# Altium schematic symbol library 野火_EBF6ULL B1 核心板_原理图封装_AD格式.SCHLIB: 52 symbols
Pins are listed as number, name and electrical type; pins without a type are passive.

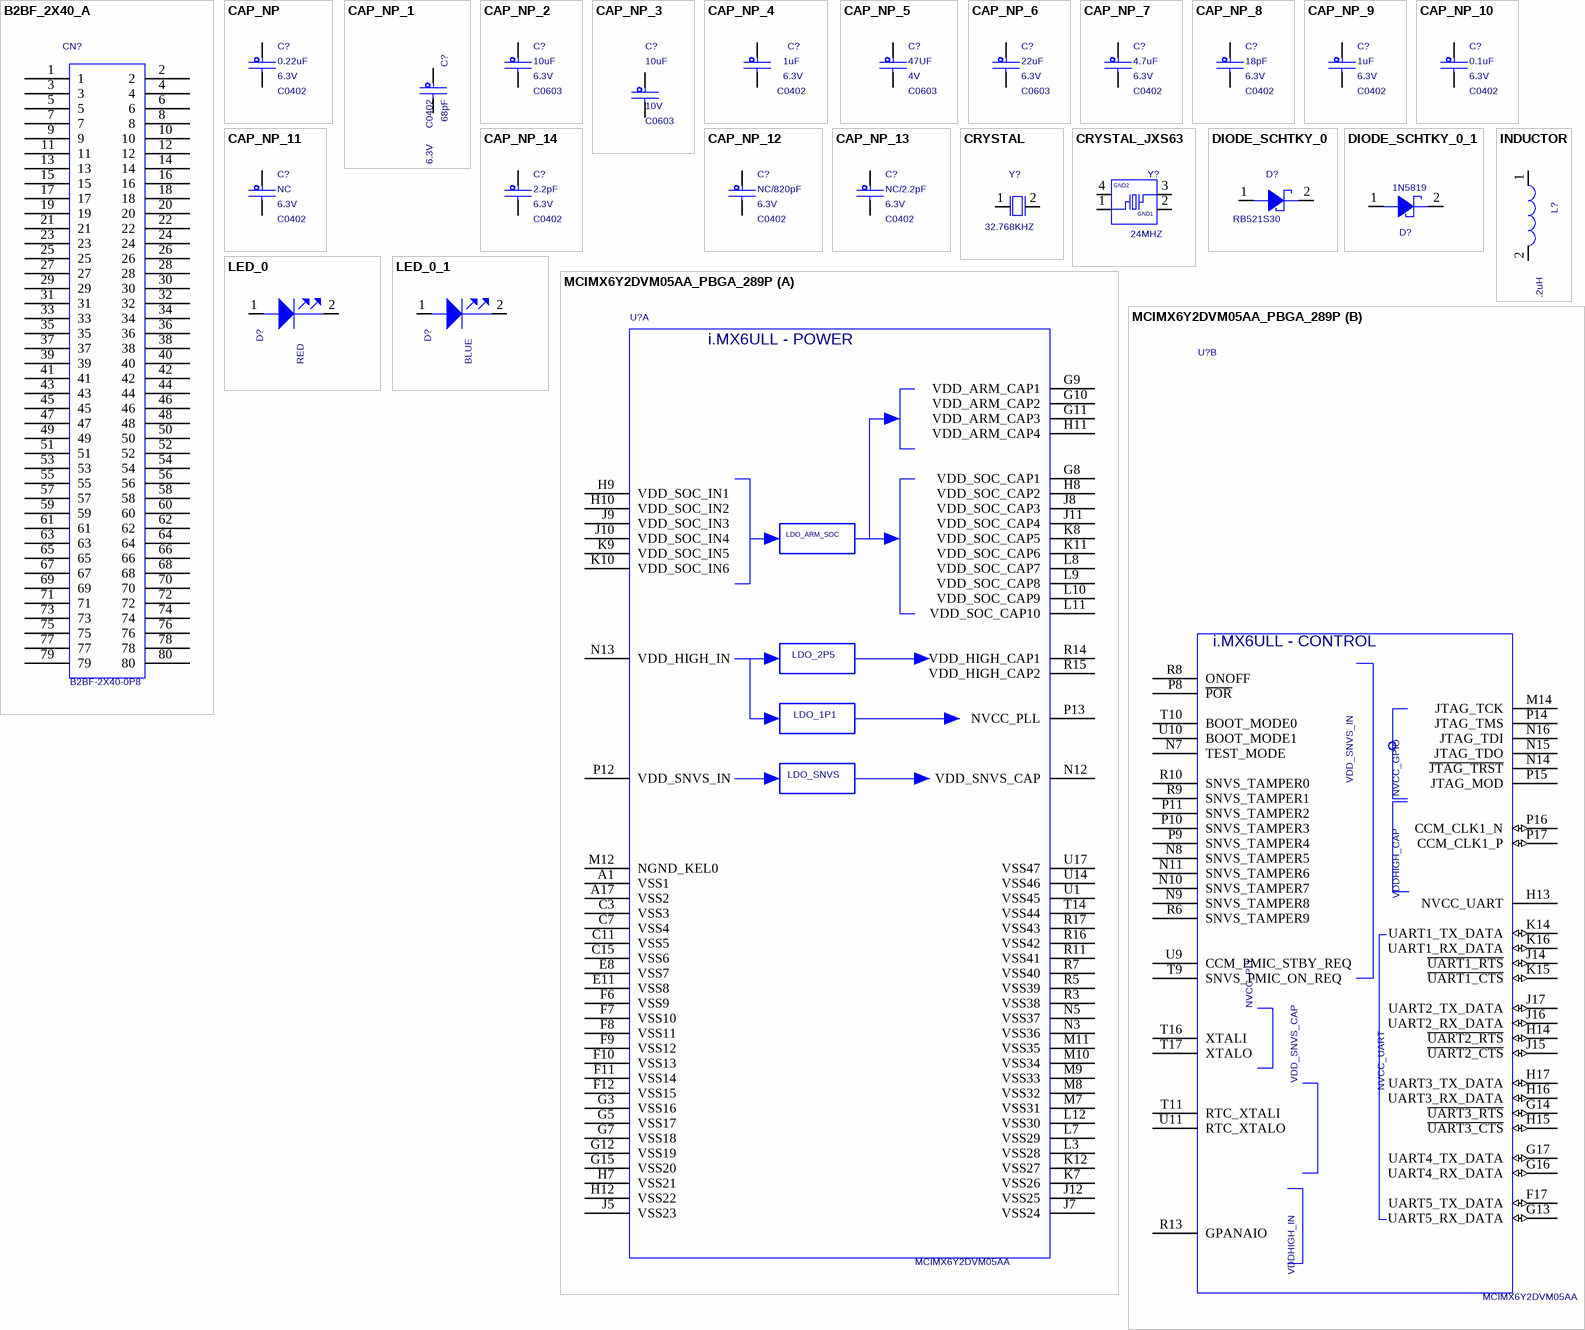
[diagram p0: symbols B2BF_2X40_A to MCIMX6Y2DVM05AA_PBGA_289P]

## B2BF_2X40_A
designator CN?  value B2BF-2X40-0P8  (hidden comment: B2BF_2X40_A)
Source_Path: C:\MYPROGRAM\CADENCE\SPB_16.6\TOOLS\CAPTURE\LIBRARY\CONNECTOR.OLB; PCB DECAL: B2BF-2X40-0P8
footprint B2BF-2X40-0P8
pins: 1, 2, 3, 4, 5, 6, 7, 8, 9, 10, 11, 12, 13, 14, 15, 16, 17, 18, 19, 20, 21, 22, 23, 24, 25, 26, 27, 28, 29, 30, 31, 32, 33, 34, 35, 36, 37, 38, 39, 40, 41, 42, 43, 44, 45, 46, 47, 48, 49, 50, 51, 52, 53, 54, 55, 56, 57, 58, 59, 60, 61, 62, 63, 64, 65, 66, 67, 68, 69, 70, 71, 72, 73, 74, 75, 76, 77, 78, 79, 80

## CAP_NP
designator C?  value 0.22uF  PCB DECAL: C0402  VOLTAGE: 6.3V  (hidden comment: CAP_NP)
CAP CER 0.22UF 6.3V 20% X5R 0402; AGILE_PN: 150-76271; MFG_NAME01: KEMET; MFG_PN01: C0402C224M9PAC; CAD_APPROVED: Yes; FPLIST: CC0402_25,CC0402_HD,0402_CC; Source_Path: Q:\ORCADCIS\SYMBOLS\FCL_CAPACITOR.OLB; CLASS: DISCRETE; Tolerance: 20%; ROHS: Yes; HEIGHT: 0.55MM
footprint C0402
pins: 1, 2

## CAP_NP_1
designator C?, comment value 68pF  PCB DECAL: C0402  VOLTAGE: 6.3V  (hidden comment: CAP_NP)
CAP CER 0.22UF 6.3V 20% X5R 0402; AGILE_PN: 150-76271; MFG_NAME01: KEMET; MFG_PN01: C0402C224M9PAC; CAD_APPROVED: Yes; FPLIST: CC0402_25,CC0402_HD,0402_CC; Source_Path: Q:\ORCADCIS\SYMBOLS\FCL_CAPACITOR.OLB; CLASS: DISCRETE; Tolerance: 20%; ROHS: Yes; HEIGHT: 0.55MM
footprint C0402
pins: 1, 2

## CAP_NP_2
designator C?, comment value 10uF  PCB DECAL: C0603  VOLTAGE: 6.3V  (hidden comment: CAP_NP)
CAP CER 0.22UF 6.3V 20% X5R 0402; AGILE_PN: 150-76271; MFG_NAME01: KEMET; MFG_PN01: C0402C224M9PAC; CAD_APPROVED: Yes; FPLIST: CC0402_25,CC0402_HD,0402_CC; Source_Path: Q:\ORCADCIS\SYMBOLS\FCL_CAPACITOR.OLB; CLASS: DISCRETE; Tolerance: 20%; ROHS: Yes; HEIGHT: 0.55MM
footprint C0603
pins: 1, 2

## CAP_NP_3
designator C?, comment value 10uF  voltage_rating: 10V  PCB DECAL: C0603  (hidden comment: CAP_NP)
CAP CER 22UF 6.3V 20% X5R 0603; FPLIST: CC0603_OV,CC0603,0603_CC; CAD_APPROVED: Yes; MFG_PN01: CL10A226MQ8NRNE; MFG_NAME01: Samsung; AGILE_PN: 150-78467; Source_Path: Q:\ORCADCIS\SYMBOLS\FCL_CAPACITOR.OLB; CLASS: DISCRETE; VOLTAGE: 6.3V; HEIGHT: 1MM; ROHS: Yes; Tolerance: 20%
footprint C0603
pins: 1, 2

## CAP_NP_4
designator C?, comment value 1uF  voltage_rating: 6.3V  PCB DECAL: C0402  (hidden comment: CAP_NP)
CAP CER 22UF 6.3V 20% X5R 0603; AGILE_PN: 150-78467; MFG_NAME01: Samsung; MFG_PN01: CL10A226MQ8NRNE; CAD_APPROVED: Yes; FPLIST: CC0603_OV,CC0603,0603_CC; Source_Path: Q:\ORCADCIS\SYMBOLS\FCL_CAPACITOR.OLB; CLASS: DISCRETE; Tolerance: 20%; ROHS: Yes; HEIGHT: 1MM; VOLTAGE: 6.3V
footprint C0402
pins: 1, 2

## CAP_NP_5
designator C?, comment value 47UF  voltage_rating: 4V  PCB DECAL: C0603  (hidden comment: CAP_NP)
CAP CER 22UF 6.3V 20% X5R 0603; FPLIST: CC0603_OV,CC0603,0603_CC; CAD_APPROVED: Yes; MFG_PN01: CL10A226MQ8NRNE; MFG_NAME01: Samsung; AGILE_PN: 150-78467; Source_Path: Q:\ORCADCIS\SYMBOLS\FCL_CAPACITOR.OLB; CLASS: DISCRETE; VOLTAGE: 6.3V; HEIGHT: 1MM; ROHS: Yes; Tolerance: 20%
footprint C0603
pins: 1, 2

## CAP_NP_6
designator C?, comment value 22uF  PCB DECAL: C0603  VOLTAGE: 6.3V  (hidden comment: CAP_NP)
CAP CER 0.22UF 6.3V 20% X5R 0402; AGILE_PN: 150-76271; MFG_NAME01: KEMET; MFG_PN01: C0402C224M9PAC; CAD_APPROVED: Yes; FPLIST: CC0402_25,CC0402_HD,0402_CC; Source_Path: Q:\ORCADCIS\SYMBOLS\FCL_CAPACITOR.OLB; CLASS: DISCRETE; Tolerance: 20%; ROHS: Yes; HEIGHT: 0.55MM
footprint C0603
pins: 1, 2

## CAP_NP_7
designator C?, comment value 4.7uF  PCB DECAL: C0402  VOLTAGE: 6.3V  (hidden comment: CAP_NP)
CAP CER 0.22UF 6.3V 20% X5R 0402; AGILE_PN: 150-76271; MFG_NAME01: KEMET; MFG_PN01: C0402C224M9PAC; CAD_APPROVED: Yes; FPLIST: CC0402_25,CC0402_HD,0402_CC; Source_Path: Q:\ORCADCIS\SYMBOLS\FCL_CAPACITOR.OLB; CLASS: DISCRETE; Tolerance: 20%; ROHS: Yes; HEIGHT: 0.55MM
footprint C0402
pins: 1, 2

## CAP_NP_8
designator C?, comment value 18pF  PCB DECAL: C0402  VOLTAGE: 6.3V  (hidden comment: CAP_NP)
CAP CER 0.22UF 6.3V 20% X5R 0402; AGILE_PN: 150-76271; MFG_NAME01: KEMET; MFG_PN01: C0402C224M9PAC; CAD_APPROVED: Yes; FPLIST: CC0402_25,CC0402_HD,0402_CC; Source_Path: Q:\ORCADCIS\SYMBOLS\FCL_CAPACITOR.OLB; CLASS: DISCRETE; Tolerance: 20%; ROHS: Yes; HEIGHT: 0.55MM
footprint C0402
pins: 1, 2

## CAP_NP_9
designator C?, comment value 1uF  VOLTAGE: 6.3V  PCB DECAL: C0402  (hidden comment: CAP_NP)
CAP CER 0.22UF 6.3V 20% X5R 0402; FPLIST: CC0402_25,CC0402_HD,0402_CC; CAD_APPROVED: Yes; MFG_PN01: C0402C224M9PAC; MFG_NAME01: KEMET; AGILE_PN: 150-76271; Source_Path: Q:\ORCADCIS\SYMBOLS\FCL_CAPACITOR.OLB; CLASS: DISCRETE; HEIGHT: 0.55MM; ROHS: Yes; Tolerance: 20%
footprint C0402
pins: 1, 2

## CAP_NP_10
designator C?, comment value 0.1uF  PCB DECAL: C0402  VOLTAGE: 6.3V  (hidden comment: CAP_NP)
CAP CER 0.22UF 6.3V 20% X5R 0402; FPLIST: CC0402_25,CC0402_HD,0402_CC; CAD_APPROVED: Yes; MFG_PN01: C0402C224M9PAC; MFG_NAME01: KEMET; AGILE_PN: 150-76271; Source_Path: Q:\ORCADCIS\SYMBOLS\FCL_CAPACITOR.OLB; CLASS: DISCRETE; HEIGHT: 0.55MM; ROHS: Yes; Tolerance: 20%
footprint C0402
pins: 1, 2

## CAP_NP_11
designator C?, comment value NC  PCB DECAL: C0402  VOLTAGE: 6.3V  (hidden comment: CAP_NP)
CAP CER 0.22UF 6.3V 20% X5R 0402; AGILE_PN: 150-76271; MFG_NAME01: KEMET; MFG_PN01: C0402C224M9PAC; CAD_APPROVED: Yes; FPLIST: CC0402_25,CC0402_HD,0402_CC; Source_Path: Q:\ORCADCIS\SYMBOLS\FCL_CAPACITOR.OLB; CLASS: DISCRETE; Tolerance: 20%; ROHS: Yes; HEIGHT: 0.55MM
footprint C0402
pins: 1, 2

## CAP_NP_12
designator C?, comment value NC/820pF  PCB DECAL: C0402  VOLTAGE: 6.3V  (hidden comment: CAP_NP)
CAP CER 0.22UF 6.3V 20% X5R 0402; AGILE_PN: 150-76271; MFG_NAME01: KEMET; MFG_PN01: C0402C224M9PAC; CAD_APPROVED: Yes; FPLIST: CC0402_25,CC0402_HD,0402_CC; Source_Path: Q:\ORCADCIS\SYMBOLS\FCL_CAPACITOR.OLB; CLASS: DISCRETE; Tolerance: 20%; ROHS: Yes; HEIGHT: 0.55MM
footprint C0402
pins: 1, 2

## CAP_NP_13
designator C?, comment value NC/2.2pF  PCB DECAL: C0402  VOLTAGE: 6.3V  (hidden comment: CAP_NP)
CAP CER 0.22UF 6.3V 20% X5R 0402; AGILE_PN: 150-76271; MFG_NAME01: KEMET; MFG_PN01: C0402C224M9PAC; CAD_APPROVED: Yes; FPLIST: CC0402_25,CC0402_HD,0402_CC; Source_Path: Q:\ORCADCIS\SYMBOLS\FCL_CAPACITOR.OLB; CLASS: DISCRETE; Tolerance: 20%; ROHS: Yes; HEIGHT: 0.55MM
footprint C0402
pins: 1, 2

## CAP_NP_14
designator C?, comment value 2.2pF  PCB DECAL: C0402  VOLTAGE: 6.3V  (hidden comment: CAP_NP)
CAP CER 0.22UF 6.3V 20% X5R 0402; FPLIST: CC0402_25,CC0402_HD,0402_CC; CAD_APPROVED: Yes; MFG_PN01: C0402C224M9PAC; MFG_NAME01: KEMET; AGILE_PN: 150-76271; Source_Path: Q:\ORCADCIS\SYMBOLS\FCL_CAPACITOR.OLB; CLASS: DISCRETE; HEIGHT: 0.55MM; ROHS: Yes; Tolerance: 20%
footprint C0402
pins: 1, 2

## CRYSTAL
designator Y?  value 32.768KHZ  (hidden comment: CRYSTAL)
XTAL 32.768KHZ 7PF 20PPM -- SMT; PCB DECAL: 3215; AGILE_PN: 230-78102; MFG_NAME01: EPSON ELECTRONICS; MFG_PN01: FC-135 32.7680KA-AG3; CAD_APPROVED: Yes; Source_Path: Q:\ORCADCIS\SYMBOLS\FCL_XTAL_OSC.OLB; CLASS: IC; ROHS: Yes; HEIGHT: 0.9MM
footprint 3215
pins: 1, 2

## CRYSTAL_JXS63
designator Y?  value 24MHZ  (hidden comment: CRYSTAL_JXS63)
XTAL 24MHZ -- 30PPM 3.2X2.5MM SMD; PCB DECAL: 3225; CAD_APPROVED: Yes; MFG_PN01: 7V24000002; MFG_NAME01: TXC CORP; AGILE_PN: 230-77452; Source_Path: Q:\ORCADCIS\SYMBOLS\FCL_XTAL_OSC.OLB; CLASS: IC; HEIGHT: 0.9MM; ROHS: Yes
footprint 3225
pins: 1, 2 GND1 (power), 3, 4 GND2 (power)

## DIODE_SCHTKY_0
designator D?  value RB521S30  (hidden comment: DIODE_SCHTKY_0)
DIODE SCH RECT 200MA 30V AEC-Q101 SOD-523; PCB DECAL: SOD523; AGILE_PN: 480-79672; MFG_NAME01: NEXPERIA; MFG_PN01: RB521S30,115; CAD_APPROVED: Yes; Source_Path: H:\NXP_RT1050\SCH\IMXRT1052_CORE\CORE\IMXRT1052_1207.DSN; CLASS: IC; ROHS: Yes; HEIGHT: 0.65MM
footprint SOD523
pins: 1, 2

## DIODE_SCHTKY_0_1
designator D?, comment value 1N5819  (hidden comment: DIODE_SCHTKY_0)
DIODE SCH RECT 200MA 30V AEC-Q101 SOD-523; PCB DECAL: SOD523; CAD_APPROVED: Yes; MFG_PN01: RB521S30,115; MFG_NAME01: NEXPERIA; AGILE_PN: 480-79672; Source_Path: H:\NXP_RT1050\SCH\IMXRT1052_CORE\CORE\IMXRT1052_1207.DSN; CLASS: IC; HEIGHT: 0.65MM; ROHS: Yes
footprint SOD523
pins: 1, 2

## INDUCTOR
designator L?  value 2.2uH  (hidden comment: INDUCTOR)
IND WW PWR 1.5uH@1MHZ 2A 20% 2520; PART_TYPE: POWER; AGILE_PN: 180-78270; MFG_NAME01: Shenzhen Sunlord Electronics Co., Ltd; MFG_PN01: SPH252012H1R5MT; CAD_APPROVED: Yes; PCB DECAL: L2520; Source_Path: Q:\ORCADCIS\SYMBOLS\FCL_INDUCTOR.OLB; CLASS: DISCRETE; Tolerance: 20%; ROHS: Yes; HEIGHT: 1.2MM
footprint L2520
pins: 1, 2

## LED_0
designator D?  value RED  (hidden comment: LED_0)
LED GRN SGL 25MA 0603; PCB DECAL: LED0603; AGILE_PN: 370-76549; MFG_NAME01: KINGBRIGHT; MFG_PN01: KPT-1608SGC; CAD_APPROVED: Yes; Source_Path: H:\NXP_RT1050\SCH\IMXRT1052_CORE\CORE\IMXRT1052_1207.DSN; CLASS: IC; ROHS: Yes; HEIGHT: 0.85MM
footprint LED0603
pins: 1 ANODE, 2 CATHODE

## LED_0_1
designator D?, comment value BLUE  (hidden comment: LED_0)
LED GRN SGL 25MA 0603; PCB DECAL: LED0603; AGILE_PN: 370-76549; MFG_NAME01: KINGBRIGHT; MFG_PN01: KPT-1608SGC; CAD_APPROVED: Yes; Source_Path: H:\NXP_RT1050\SCH\IMXRT1052_CORE\CORE\IMXRT1052_1207.DSN; CLASS: IC; ROHS: Yes; HEIGHT: 0.85MM
footprint LED0603
pins: 1 ANODE, 2 CATHODE

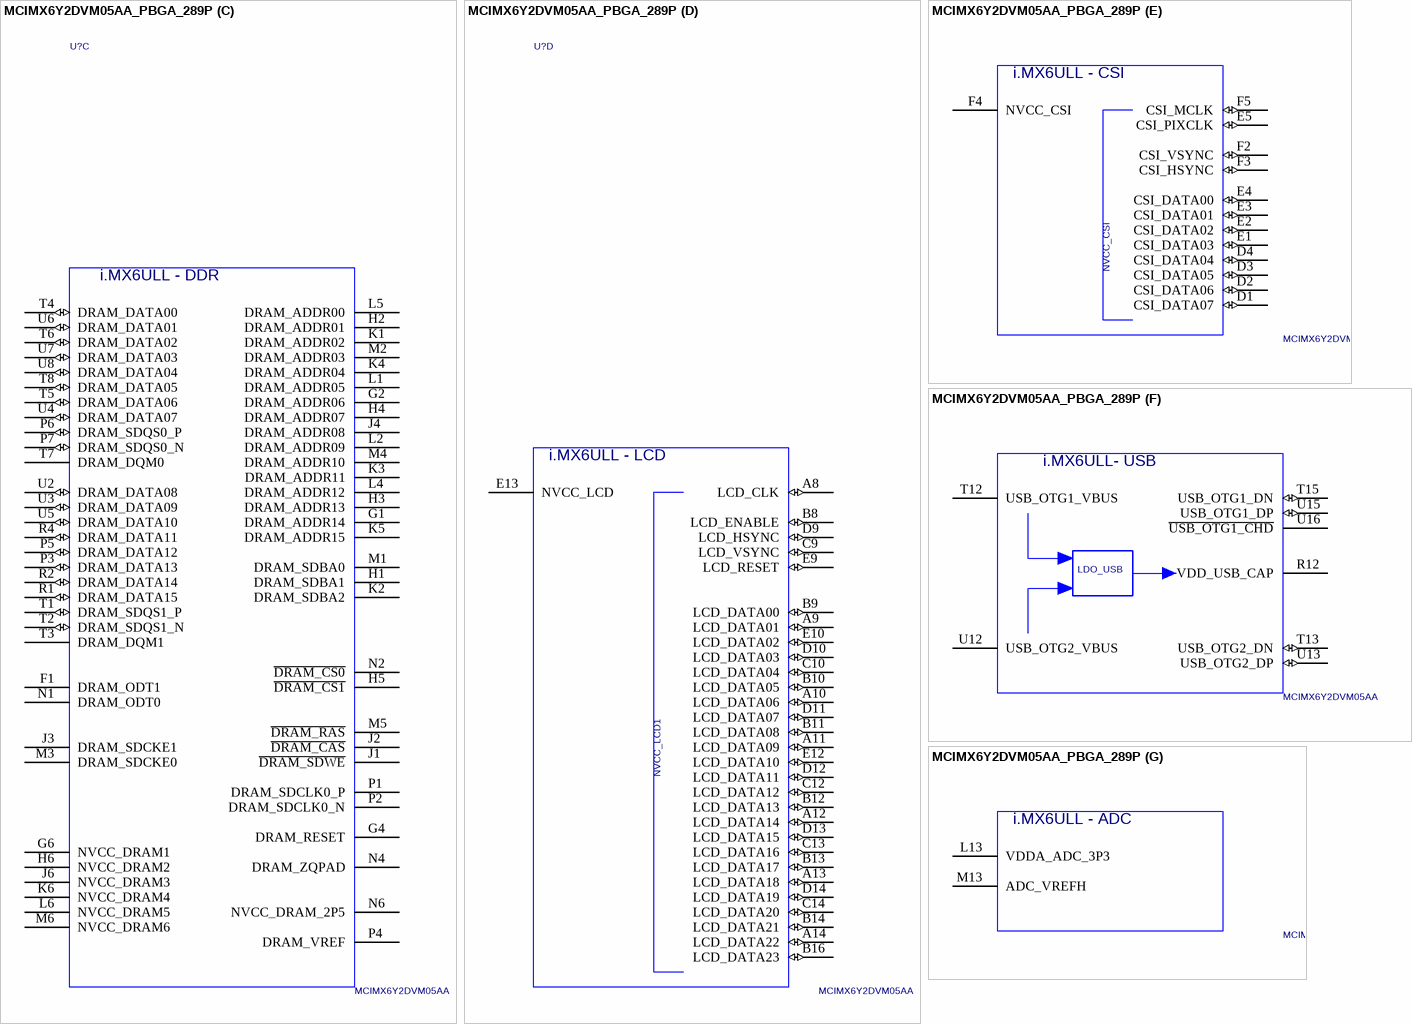
[diagram p1: symbol MCIMX6Y2DVM05AA_PBGA_289P]

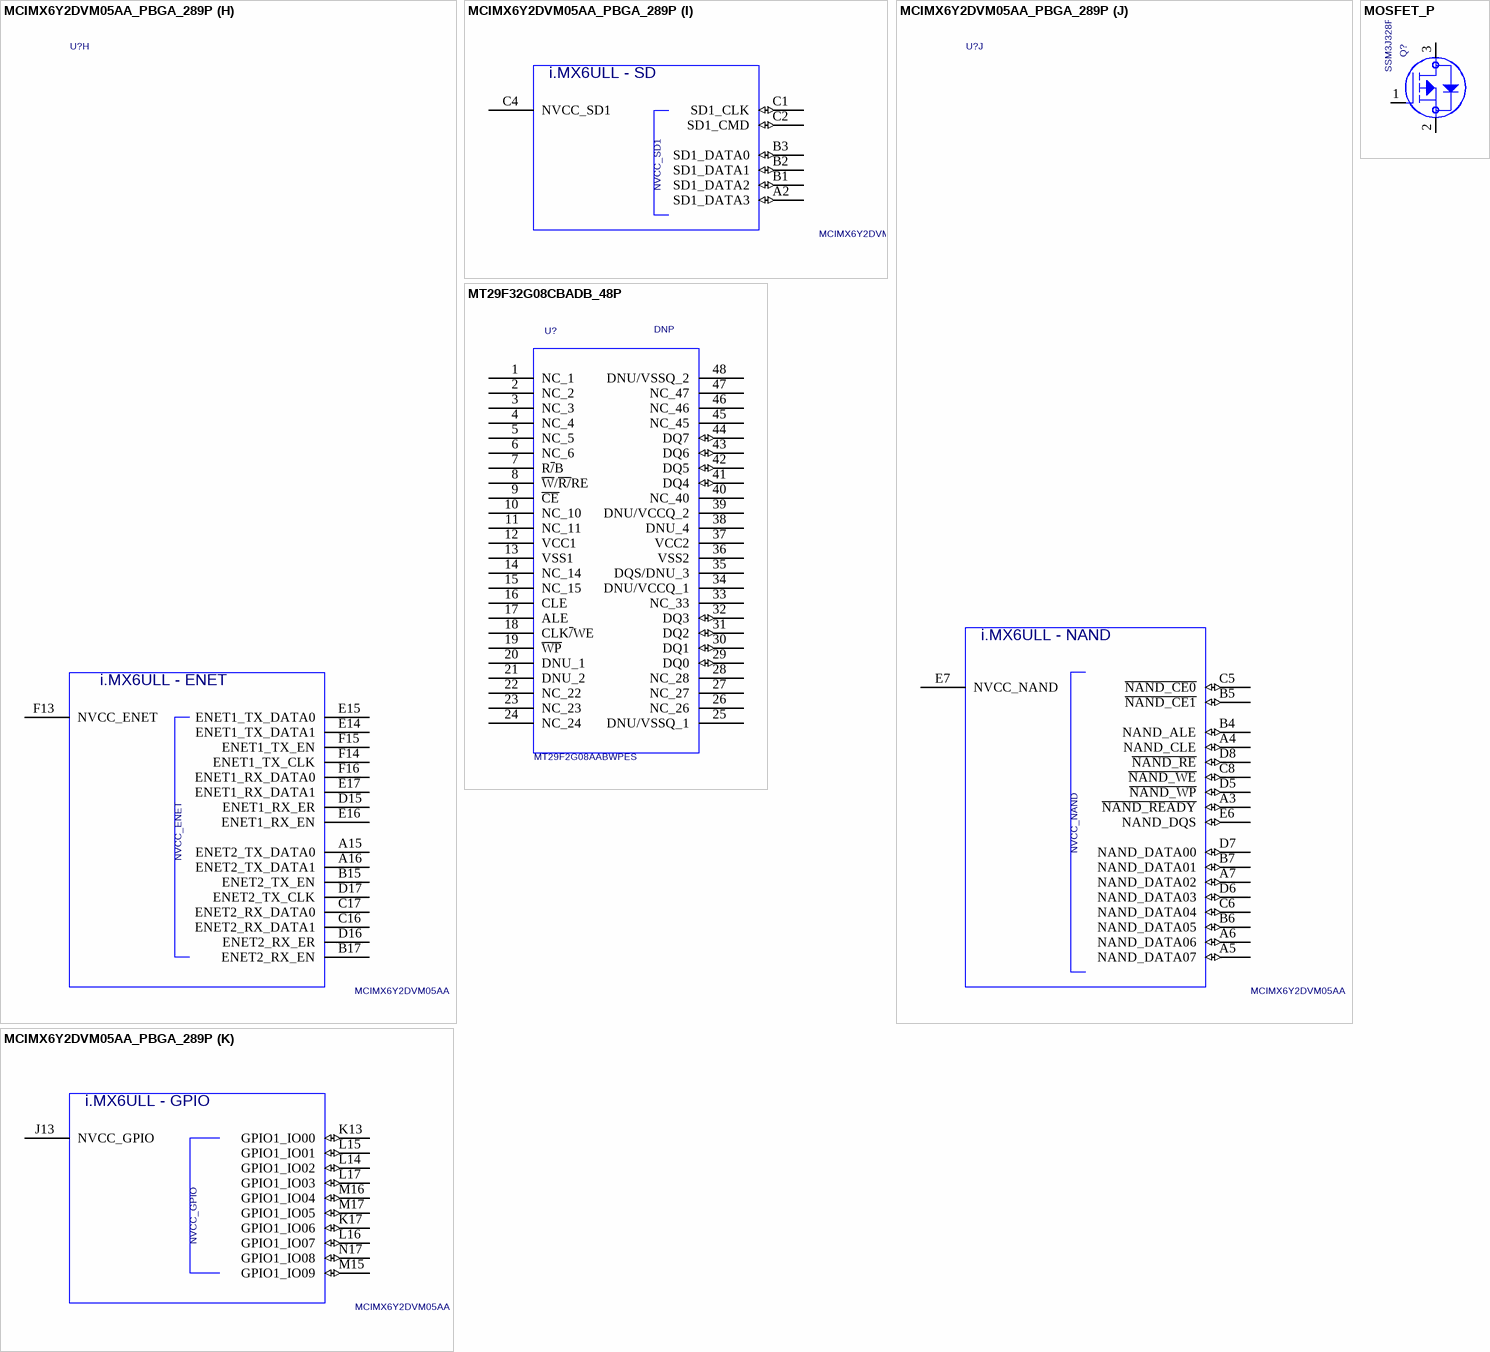
[diagram p2: symbols MCIMX6Y2DVM05AA_PBGA_289P to MT29F32G08CBADB_48P]

## MCIMX6Y2DVM05AA_PBGA_289P
designator U?  value MCIMX6Y2DVM05AA  (hidden comment: MCIMX6Y2DVM05AA_PBGA_289P)
IC CPU ARM COREA7 528MHZ 16BIT 1.5V PBGA289; PCB DECAL: BGA289_0P8_14X14; AGILE_PN: TMP-WF-27909; MFG_NAME01: NXP SEMICONDUCTORS; PRE_APN: 330-77022; CAD_APPROVED: Yes; Source_Path: Q:\ORCADCIS\SYMBOLS\FCL_IC_FREESCALE.OLB; MFG_PN01: MCIMX6Y2DVM05AA; ROHS: Yes; HEIGHT: 1.32MM; CLASS: IC
footprint BGA289_0P8_14X14
part A pins: A1 VSS1 (power), A17 VSS2 (power), C3 VSS3 (power), C7 VSS4 (power), C11 VSS5 (power), C15 VSS6 (power), E8 VSS7 (power), E11 VSS8 (power), F6 VSS9 (power), F7 VSS10 (power), F8 VSS11 (power), F9 VSS12 (power), F10 VSS13 (power), F11 VSS14 (power), F12 VSS15 (power), G3 VSS16 (power), G5 VSS17 (power), G7 VSS18 (power), G8 VDD_SOC_CAP1 (power), G9 VDD_ARM_CAP1 (power), G10 VDD_ARM_CAP2 (power), G11 VDD_ARM_CAP3 (power), G12 VSS19 (power), G15 VSS20 (power), H7 VSS21 (power), H8 VDD_SOC_CAP2 (power), H9 VDD_SOC_IN1 (power), H10 VDD_SOC_IN2 (power), H11 VDD_ARM_CAP4 (power), H12 VSS22 (power), J5 VSS23 (power), J7 VSS24 (power), J8 VDD_SOC_CAP3 (power), J9 VDD_SOC_IN3 (power), J10 VDD_SOC_IN4 (power), J11 VDD_SOC_CAP4 (power), J12 VSS25 (power), K7 VSS26 (power), K8 VDD_SOC_CAP5 (power), K9 VDD_SOC_IN5 (power), K10 VDD_SOC_IN6 (power), K11 VDD_SOC_CAP6 (power), K12 VSS27 (power), L3 VSS28 (power), L7 VSS29 (power), L8 VDD_SOC_CAP7 (power), L9 VDD_SOC_CAP8 (power), L10 VDD_SOC_CAP9 (power), L11 VDD_SOC_CAP10 (power), L12 VSS30 (power), M7 VSS31 (power), M8 VSS32 (power), M9 VSS33 (power), M10 VSS34 (power), M11 VSS35 (power), M12 NGND_KEL0 (power), N3 VSS36 (power), N5 VSS37 (power), N12 VDD_SNVS_CAP (power), N13 VDD_HIGH_IN (power), P12 VDD_SNVS_IN (power), P13 NVCC_PLL (power), R3 VSS38 (power), R5 VSS39 (power), R7 VSS40 (power), R11 VSS41 (power), R14 VDD_HIGH_CAP1 (power), R15 VDD_HIGH_CAP2 (power), R16 VSS42 (power), R17 VSS43 (power), T14 VSS44 (power), U1 VSS45 (power), U14 VSS46 (power), U17 VSS47 (power)
part B pins: F17 UART5_TX_DATA (io), G13 UART5_RX_DATA (io), G14 ~{UART3_RTS} (io), G16 UART4_RX_DATA (io), G17 UART4_TX_DATA (io), H13 NVCC_UART, H14 ~{UART2_RTS} (io), H15 ~{UART3_CTS} (io), H16 UART3_RX_DATA (io), H17 UART3_TX_DATA (io), J14 ~{UART1_RTS} (io), J15 ~{UART2_CTS} (io), J16 UART2_RX_DATA (io), J17 UART2_TX_DATA (io), K14 UART1_TX_DATA (io), K15 ~{UART1_CTS} (io), K16 UART1_RX_DATA (io), M14 JTAG_TCK, N7 TEST_MODE, N8 SNVS_TAMPER5, N9 SNVS_TAMPER8, N10 SNVS_TAMPER7, N11 SNVS_TAMPER6, N14 ~{JTAG_TRST}, N15 JTAG_TDO, N16 JTAG_TDI, P8 ~{POR}, P9 SNVS_TAMPER4, P10 SNVS_TAMPER3, P11 SNVS_TAMPER2, P14 JTAG_TMS, P15 JTAG_MOD, P16 CCM_CLK1_N (io), P17 CCM_CLK1_P (io), R6 SNVS_TAMPER9, R8 ONOFF, R9 SNVS_TAMPER1, R10 SNVS_TAMPER0, R13 GPANAIO (power), T9 SNVS_PMIC_ON_REQ, T10 BOOT_MODE0, T11 RTC_XTALI, T16 XTALI, T17 XTALO, U9 CCM_PMIC_STBY_REQ, U10 BOOT_MODE1, U11 RTC_XTALO
part C pins: F1 DRAM_ODT1, G1 DRAM_ADDR14, G2 DRAM_ADDR06, G4 DRAM_RESET, G6 NVCC_DRAM1 (power), H1 DRAM_SDBA1, H2 DRAM_ADDR01, H3 DRAM_ADDR13, H4 DRAM_ADDR07, H5 ~{DRAM_CS1}, H6 NVCC_DRAM2 (power), J1 ~{DRAM_SDWE}, J2 ~{DRAM_CAS}, J3 DRAM_SDCKE1, J4 DRAM_ADDR08, J6 NVCC_DRAM3 (power), K1 DRAM_ADDR02, K2 DRAM_SDBA2, K3 DRAM_ADDR11, K4 DRAM_ADDR04, K5 DRAM_ADDR15, K6 NVCC_DRAM4 (power), L1 DRAM_ADDR05, L2 DRAM_ADDR09, L4 DRAM_ADDR12, L5 DRAM_ADDR00, L6 NVCC_DRAM5 (power), M1 DRAM_SDBA0, M2 DRAM_ADDR03, M3 DRAM_SDCKE0, M4 DRAM_ADDR10, M5 ~{DRAM_RAS}, M6 NVCC_DRAM6 (power), N1 DRAM_ODT0, N2 ~{DRAM_CS0}, N4 DRAM_ZQPAD, N6 NVCC_DRAM_2P5 (power), P1 DRAM_SDCLK0_P, P2 DRAM_SDCLK0_N, P3 DRAM_DATA13 (io), P4 DRAM_VREF (power), P5 DRAM_DATA12 (io), P6 DRAM_SDQS0_P (io), P7 DRAM_SDQS0_N (io), R1 DRAM_DATA15 (io), R2 DRAM_DATA14 (io), R4 DRAM_DATA11 (io), T1 DRAM_SDQS1_P (io), T2 DRAM_SDQS1_N (io), T3 DRAM_DQM1, T4 DRAM_DATA00 (io), T5 DRAM_DATA06 (io), T6 DRAM_DATA02 (io), T7 DRAM_DQM0, T8 DRAM_DATA05 (io), U2 DRAM_DATA08 (io), U3 DRAM_DATA09 (io), U4 DRAM_DATA07 (io), U5 DRAM_DATA10 (io), U6 DRAM_DATA01 (io), U7 DRAM_DATA03 (io), U8 DRAM_DATA04 (io)
part D pins: A8 LCD_CLK (io), A9 LCD_DATA01 (io), A10 LCD_DATA06 (io), A11 LCD_DATA09 (io), A12 LCD_DATA14 (io), A13 LCD_DATA18 (io), A14 LCD_DATA22 (io), B8 LCD_ENABLE (io), B9 LCD_DATA00 (io), B10 LCD_DATA05 (io), B11 LCD_DATA08 (io), B12 LCD_DATA13 (io), B13 LCD_DATA17 (io), B14 LCD_DATA21 (io), B16 LCD_DATA23 (io), C9 LCD_VSYNC (io), C10 LCD_DATA04 (io), C12 LCD_DATA12 (io), C13 LCD_DATA16 (io), C14 LCD_DATA20 (io), D9 LCD_HSYNC (io), D10 LCD_DATA03 (io), D11 LCD_DATA07 (io), D12 LCD_DATA11 (io), D13 LCD_DATA15 (io), D14 LCD_DATA19 (io), E9 LCD_RESET (io), E10 LCD_DATA02 (io), E12 LCD_DATA10 (io), E13 NVCC_LCD (power)
part E pins: D1 CSI_DATA07 (io), D2 CSI_DATA06 (io), D3 CSI_DATA05 (io), D4 CSI_DATA04 (io), E1 CSI_DATA03 (io), E2 CSI_DATA02 (io), E3 CSI_DATA01 (io), E4 CSI_DATA00 (io), E5 CSI_PIXCLK (io), F2 CSI_VSYNC (io), F3 CSI_HSYNC (io), F4 NVCC_CSI (power), F5 CSI_MCLK (io)
part F pins: R12 VDD_USB_CAP (power), T12 USB_OTG1_VBUS (power), T13 USB_OTG2_DN (io), T15 USB_OTG1_DN (io), U12 USB_OTG2_VBUS (power), U13 USB_OTG2_DP (io), U15 USB_OTG1_DP (io), U16 ~{USB_OTG1_CHD}
part G pins: L13 VDDA_ADC_3P3 (power), M13 ADC_VREFH (power)
part H pins: A15 ENET2_TX_DATA0, A16 ENET2_TX_DATA1, B15 ENET2_TX_EN, B17 ENET2_RX_EN, C16 ENET2_RX_DATA1, C17 ENET2_RX_DATA0, D15 ENET1_RX_ER, D16 ENET2_RX_ER, D17 ENET2_TX_CLK, E14 ENET1_TX_DATA1, E15 ENET1_TX_DATA0, E16 ENET1_RX_EN, E17 ENET1_RX_DATA1, F13 NVCC_ENET (power), F14 ENET1_TX_CLK, F15 ENET1_TX_EN, F16 ENET1_RX_DATA0
part I pins: A2 SD1_DATA3 (io), B1 SD1_DATA2 (io), B2 SD1_DATA1 (io), B3 SD1_DATA0 (io), C1 SD1_CLK (io), C2 SD1_CMD (io), C4 NVCC_SD1 (power)
part J pins: A3 ~{NAND_READY} (io), A4 NAND_CLE (io), A5 NAND_DATA07 (io), A6 NAND_DATA06 (io), A7 NAND_DATA02 (io), B4 NAND_ALE (io), B5 ~{NAND_CE1} (io), B6 NAND_DATA05 (io), B7 NAND_DATA01 (io), C5 ~{NAND_CE0} (io), C6 NAND_DATA04 (io), C8 ~{NAND_WE} (io), D5 ~{NAND_WP} (io), D6 NAND_DATA03 (io), D7 NAND_DATA00 (io), D8 ~{NAND_RE} (io), E6 NAND_DQS (io), E7 NVCC_NAND (power)
part K pins: J13 NVCC_GPIO (power), K13 GPIO1_IO00 (io), K17 GPIO1_IO06 (io), L14 GPIO1_IO02 (io), L15 GPIO1_IO01 (io), L16 GPIO1_IO07 (io), L17 GPIO1_IO03 (io), M15 GPIO1_IO09 (io), M16 GPIO1_IO04 (io), M17 GPIO1_IO05 (io), N17 GPIO1_IO08 (io)
part A text: i.MX6ULL - POWER; LDO_ARM_SOC; LDO_2P5; LDO_1P1; LDO_SNVS
part B text: i.MX6ULL - CONTROL; VDDHIGH_CAP; VDDHIGH_IN
part C text: i.MX6ULL - DDR
part D text: i.MX6ULL - LCD; NVCC_LCD1
part E text: i.MX6ULL - CSI
part F text: i.MX6ULL- USB; LDO_USB
part G text: i.MX6ULL - ADC
part H text: i.MX6ULL - ENET
part I text: i.MX6ULL - SD
part J text: i.MX6ULL - NAND
part K text: i.MX6ULL - GPIO

## MOSFET_P
designator Q?  value SSM3J328R  (hidden comment: MOSFET_P)
TRAN PMOS PWR 12V 4.3A SOT23; AGILE_PN: 480-77718; MFG_NAME01: INTERNATIONAL RECTIFIER; MFG_PN01: IRLML6401TRPBF; CAD_APPROVED: Yes; Source_Path: Q:\ORCADCIS\SYMBOLS\FCL_SEMICONDUCTOR.OLB; CLASS: IC; PCB DECAL: SOT23; ROHS: Yes; HEIGHT: 1.12MM
footprint SOT23
pins: 1 GATE, 2 SOURCE, 3 DRAIN

## MT29F32G08CBADB_48P
designator U?  value MT29F2G08AABWPES  ASSY_OPT: DNP  (hidden comment: MT29F32G08CBADB_48P)
IC MEM NAND FLASH ASYNC 32GB 2.7-3.6V TSOP48; PCB DECAL: TSOP48-050-1220; CAD_APPROVED: Yes; MFG_PN01: MT29F32G08CBADBWP-12IT:D; MFG_NAME01: Micron; AGILE_PN: 334-77617; Source_Path: Q:\ORCADCIS\SYMBOLS\FCL_IC3.OLB; HEIGHT: 1.2 MM; ROHS: Yes; CLASS: IC
footprint TSOP48-050-1220
pins: 1 NC_1, 2 NC_2, 3 NC_3, 4 NC_4, 5 NC_5, 6 NC_6, 7 R~{/}B (oc), 8 ~{W}/~{R/}RE, 9 ~{CE}, 10 NC_10, 11 NC_11, 12 VCC1 (power), 13 VSS1 (power), 14 NC_14, 15 NC_15, 16 CLE, 17 ALE, 18 CLK~{/}WE, 19 ~{WP}, 20 DNU_1, 21 DNU_2, 22 NC_22, 23 NC_23, 24 NC_24, 25 DNU/VSSQ_1 (power), 26 NC_26, 27 NC_27, 28 NC_28, 29 DQ0 (io), 30 DQ1 (io), 31 DQ2 (io), 32 DQ3 (io), 33 NC_33, 34 DNU/VCCQ_1 (power), 35 DQS/DNU_3, 36 VSS2 (power), 37 VCC2 (power), 38 DNU_4, 39 DNU/VCCQ_2, 40 NC_40, 41 DQ4 (io), 42 DQ5 (io), 43 DQ6 (io), 44 DQ7 (io), 45 NC_45, 46 NC_46, 47 NC_47, 48 DNU/VSSQ_2 (power)

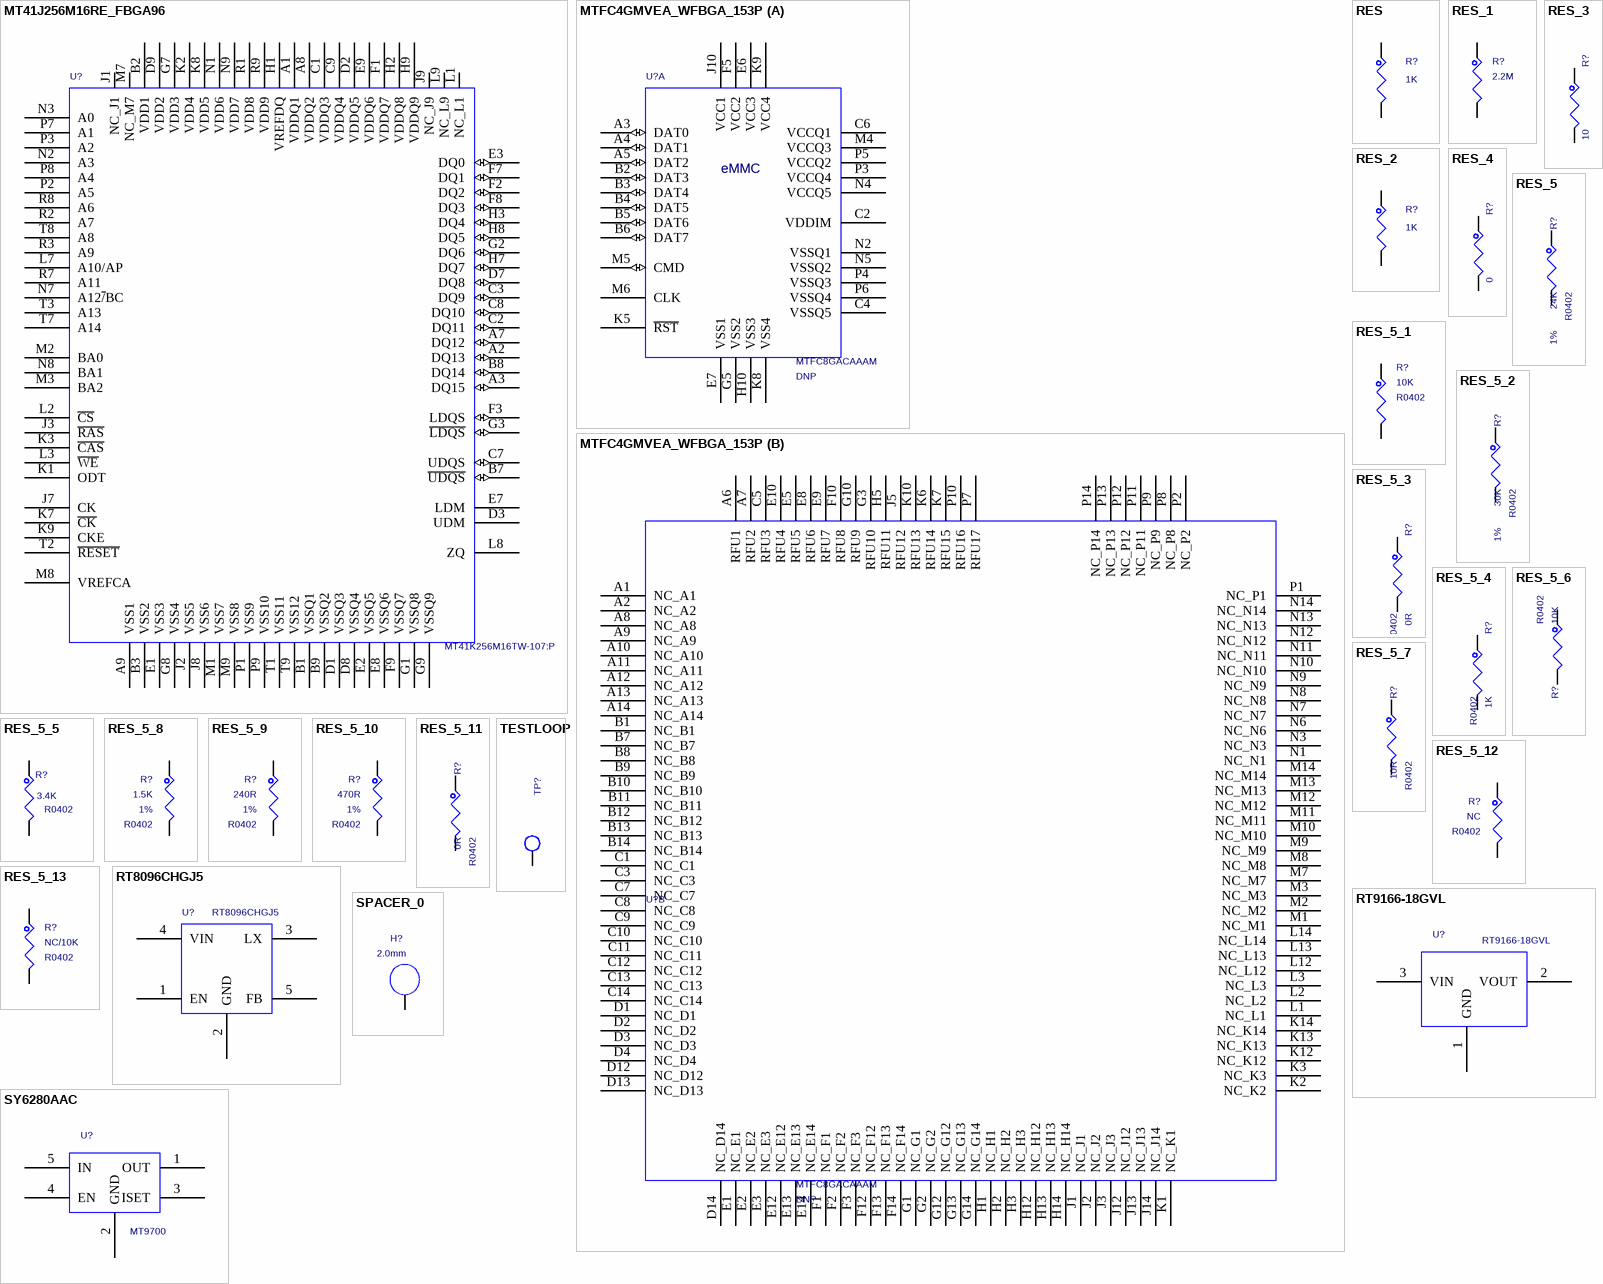
[diagram p3: symbols MT41J256M16RE_FBGA96 to TESTLOOP]

## MT41J256M16RE_FBGA96
designator U?  value MT41K256M16TW-107:P  (hidden comment: MT41J256M16RE_FBGA96)
IC MEM DDR3 SDRAM 256MX16 1.071NS 1.35V FBGA96; PCB DECAL: BGA96_0P8_8P15X14P15; CAD_APPROVED: Yes; MFG_NAME01: MICRON; AGILE_PN: 334-77510; Source_Path: Q:\ORCADCIS\SYMBOLS\FCL_IC5.OLB; HEIGHT: 1.2 MM; ROHS: Yes; MFG_PN01: MT41K256M16TW-107:P; CLASS: IC
footprint BGA96_0P8_8P15X14P15
pins: A1 VDDQ1 (power), A2 DQ13 (io), A3 DQ15 (io), A7 DQ12 (io), A8 VDDQ2 (power), A9 VSS1 (power), B1 VSSQ1 (power), B2 VDD1 (power), B3 VSS2 (power), B7 ~{UDQS} (io), B8 DQ14 (io), B9 VSSQ2 (power), C1 VDDQ3 (power), C2 DQ11 (io), C3 DQ9 (io), C7 UDQS (io), C8 DQ10 (io), C9 VDDQ4 (power), D1 VSSQ3 (power), D2 VDDQ5 (power), D3 UDM, D7 DQ8 (io), D8 VSSQ4 (power), D9 VDD2 (power), E1 VSS3 (power), E2 VSSQ5 (power), E3 DQ0 (io), E7 LDM, E8 VSSQ6 (power), E9 VDDQ6 (power), F1 VDDQ7 (power), F2 DQ2 (io), F3 LDQS (io), F7 DQ1 (io), F8 DQ3 (io), F9 VSSQ7 (power), G1 VSSQ8 (power), G2 DQ6 (io), G3 ~{LDQS} (io), G7 VDD3 (power), G8 VSS4 (power), G9 VSSQ9 (power), H1 VREFDQ, H2 VDDQ8 (power), H3 DQ4 (io), H7 DQ7 (io), H8 DQ5 (io), H9 VDDQ9 (power), J1 NC_J1, J2 VSS5 (power), J3 ~{RAS}, J7 CK, J8 VSS6 (power), J9 NC_J9, K1 ODT, K2 VDD4 (power), K3 ~{CAS}, K7 ~{CK}, K8 VDD5 (power), K9 CKE, L1 NC_L1, L2 ~{CS}, L3 ~{WE}, L7 A10/AP, L8 ZQ, L9 NC_L9, M1 VSS7 (power), M2 BA0, M3 BA2, M7 NC_M7, M8 VREFCA, M9 VSS8 (power), N1 VDD6 (power), N2 A3, N3 A0, N7 A12~{/}BC, N8 BA1, N9 VDD7 (power), P1 VSS9 (power), P2 A5, P3 A2, P7 A1, P8 A4, P9 VSS10 (power), R1 VDD8 (power), R2 A7, R3 A9, R7 A11, R8 A6, R9 VDD9 (power), T1 VSS11 (power), T2 ~{RESET}, T3 A13, T7 A14, T8 A8, T9 VSS12 (power)

## MTFC4GMVEA_WFBGA_153P
designator U?  value MTFC8GACAAAM  ASSY_OPT: DNP  (hidden comment: MTFC4GMVEA_WFBGA_153P)
IC MEM NAND FLASH 8GB MMC 4.51 CTLR 2.7-3.6V FBGA153; PCB DECAL: FBGA153_0P5_11P5X13; CAD_APPROVED: Yes; MFG_PN01: MTFC8GACAAAM-1M WT; MFG_NAME01: MICRON; AGILE_PN: 342-00603; Source_Path: Q:\ORCADCIS\SYMBOLS\FCL_IC5.OLB; HEIGHT: 1.165 MM; ROHS: Yes; CLASS: IC
footprint FBGA153_0P5_11P5X13
part A pins: A3 DAT0 (io), A4 DAT1 (io), A5 DAT2 (io), B2 DAT3 (io), B3 DAT4 (io), B4 DAT5 (io), B5 DAT6 (io), B6 DAT7 (io), C2 VDDIM (power), C4 VSSQ5 (power), C6 VCCQ1 (power), E6 VCC3 (power), E7 VSS1 (power), F5 VCC2 (power), G5 VSS2 (power), H10 VSS3 (power), J10 VCC1 (power), K5 ~{RST}, K8 VSS4 (power), K9 VCC4 (power), M4 VCCQ3 (power), M5 CMD (io), M6 CLK, N2 VSSQ1 (power), N4 VCCQ5 (power), N5 VSSQ2 (power), P3 VCCQ4 (power), P4 VSSQ3 (power), P5 VCCQ2 (power), P6 VSSQ4 (power)
part B pins: A1 NC_A1, A2 NC_A2, A6 RFU1, A7 RFU2, A8 NC_A8, A9 NC_A9, A10 NC_A10, A11 NC_A11, A12 NC_A12, A13 NC_A13, A14 NC_A14, B1 NC_B1, B7 NC_B7, B8 NC_B8, B9 NC_B9, B10 NC_B10, B11 NC_B11, B12 NC_B12, B13 NC_B13, B14 NC_B14, C1 NC_C1, C3 NC_C3, C5 RFU3, C7 NC_C7, C8 NC_C8, C9 NC_C9, C10 NC_C10, C11 NC_C11, C12 NC_C12, C13 NC_C13, C14 NC_C14, D1 NC_D1, D2 NC_D2, D3 NC_D3, D4 NC_D4, D12 NC_D12, D13 NC_D13, D14 NC_D14, E1 NC_E1, E2 NC_E2, E3 NC_E3, E5 RFU5, E8 RFU6, E9 RFU7, E10 RFU4, E12 NC_E12, E13 NC_E13, E14 NC_E14, F1 NC_F1, F2 NC_F2, F3 NC_F3, F10 RFU8, F12 NC_F12, F13 NC_F13, F14 NC_F14, G1 NC_G1, G2 NC_G2, G3 RFU10, G10 RFU9, G12 NC_G12, G13 NC_G13, G14 NC_G14, H1 NC_H1, H2 NC_H2, H3 NC_H3, H5 RFU11, H12 NC_H12, H13 NC_H13, H14 NC_H14, J1 NC_J1, J2 NC_J2, J3 NC_J3, J5 RFU12, J12 NC_J12, J13 NC_J13, J14 NC_J14, K1 NC_K1, K2 NC_K2, K3 NC_K3, K6 RFU14, K7 RFU15, K10 RFU13, K12 NC_K12, K13 NC_K13, K14 NC_K14, L1 NC_L1, L2 NC_L2, L3 NC_L3, L12 NC_L12, L13 NC_L13, L14 NC_L14, M1 NC_M1, M2 NC_M2, M3 NC_M3, M7 NC_M7, M8 NC_M8, M9 NC_M9, M10 NC_M10, M11 NC_M11, M12 NC_M12, M13 NC_M13, M14 NC_M14, N1 NC_N1, N3 NC_N3, N6 NC_N6, N7 NC_N7, N8 NC_N8, N9 NC_N9, N10 NC_N10, N11 NC_N11, N12 NC_N12, N13 NC_N13, N14 NC_N14, P1 NC_P1, P2 NC_P2, P7 RFU17, P8 NC_P8, P9 NC_P9, P10 RFU16, P11 NC_P11, P12 NC_P12, P13 NC_P13, P14 NC_P14
part A text: eMMC

## RES
designator R?  value 1K  (hidden comment: RES)
RES MF ZERO OHM 1/16W 5% 0402; PCB DECAL: R0402; AGILE_PN: 470-75394; MFG_NAME01: ROHM; MFG_PN01: MCR01MZPJ000; CAD_APPROVED: Yes; FPLIST: RC0402_25,RC0402_HD,RC0402_X2,0402_CC; Source_Path: Q:\ORCADCIS\SYMBOLS\FCL_RESISTOR.OLB; CLASS: DISCRETE; HEIGHT: 0.45 MM; Tolerance: 5%; ROHS: Yes
footprint R0402
pins: 1, 2

## RES_1
designator R?, comment value 2.2M  (hidden comment: RES)
RES MF 2.2M  1/16W 1% 0402; PCB DECAL: R0402; AGILE_PN: 470-31210; MFG_NAME01: KOA SPEER; MFG_PN01: RK73H1ETTP2204F; CAD_APPROVED: Yes; FPLIST: RC0402_25,RC0402_HD,0402_CC; Source_Path: Q:\ORCADCIS\SYMBOLS\FCL_RESISTOR.OLB; CLASS: DISCRETE; Tolerance: 1%; ROHS: Yes; HEIGHT: 0.40 MM
footprint R0402
pins: 1, 2

## RES_2
designator R?, comment value 1K  (hidden comment: RES)
RES MF 220 OHM 1/10W 5% 0603; PCB DECAL: R0402; AGILE_PN: 470-30297; MFG_NAME01: KOA SPEER; MFG_PN01: RK73B1JTTD221J; CAD_APPROVED: Yes; FPLIST: RC0603_OV,RC0603,0603_CC; Source_Path: Q:\ORCADCIS\SYMBOLS\FCL_RESISTOR.OLB; CLASS: DISCRETE; Tolerance: 5%; ROHS: Yes; HEIGHT: 0.6MM
footprint R0402
pins: 1, 2

## RES_3
designator R?, comment value 10  (hidden comment: RES)
RES MF 10 OHM 1/16W 5% 0402; PCB DECAL: R0402; AGILE_PN: 470-75589; MFG_NAME01: VENKEL COMPANY; MFG_PN01: CR0402-16W-100JT; CAD_APPROVED: Yes; FPLIST: RC0402_25,RC0402_HD,0402_CC; Source_Path: Q:\ORCADCIS\SYMBOLS\FCL_RESISTOR.OLB; CLASS: DISCRETE; Tolerance: 5%; ROHS: Yes
footprint R0402
pins: 1, 2

## RES_4
designator R?, comment value 0  (hidden comment: RES)
RES MF ZERO OHM 1/16W 5% 0402; PCB DECAL: R0402; FPLIST: RC0402_25,RC0402_HD,RC0402_X2,0402_CC; CAD_APPROVED: Yes; MFG_PN01: MCR01MZPJ000; MFG_NAME01: ROHM; AGILE_PN: 470-75394; Source_Path: Q:\ORCADCIS\SYMBOLS\FCL_RESISTOR.OLB; CLASS: DISCRETE; ROHS: Yes; Tolerance: 5%
footprint R0402
pins: 1, 2

## RES_5
designator R?  value 24K  PCB DECAL: R0402  Tolerance: 1%  (hidden comment: RES_5)
RES MF 180K 1/10W 1% AEC-Q200 0402; Temp_Range: -55C to +155C; FPLIST: RC0402_25,RC0402_HD,0402_CC; CAD_APPROVED: Yes; MFG_PN01: RK73H1ETTP1803F; MFG_NAME01: KOA SPEER; AGILE_PN: 470-31088; Source_Path: F:\NXP\RT1020\SCH\IMXRT1021_0928_1.DSN; CLASS: DISCRETE; HEIGHT: 0.40 MM; ROHS: Yes
footprint R0402
pins: 1, 2

## RES_5_1
designator R?, comment value 10K  PCB DECAL: R0402  (hidden comment: RES_5)
RES MF 180K 1/10W 1% AEC-Q200 0402; Temp_Range: -55C to +155C; FPLIST: RC0402_25,RC0402_HD,0402_CC; CAD_APPROVED: Yes; MFG_PN01: RK73H1ETTP1803F; MFG_NAME01: KOA SPEER; AGILE_PN: 470-31088; Source_Path: F:\NXP\RT1020\SCH\IMXRT1021_0928_1.DSN; CLASS: DISCRETE; HEIGHT: 0.40 MM; ROHS: Yes; Tolerance: 1%
footprint R0402
pins: 1, 2

## RES_5_2
designator R?, comment value 30K  PCB DECAL: R0402  Tolerance: 1%  (hidden comment: RES_5)
RES MF 180K 1/10W 1% AEC-Q200 0402; Temp_Range: -55C to +155C; FPLIST: RC0402_25,RC0402_HD,0402_CC; CAD_APPROVED: Yes; MFG_PN01: RK73H1ETTP1803F; MFG_NAME01: KOA SPEER; AGILE_PN: 470-31088; Source_Path: F:\NXP\RT1020\SCH\IMXRT1021_0928_1.DSN; CLASS: DISCRETE; HEIGHT: 0.40 MM; ROHS: Yes
footprint R0402
pins: 1, 2

## RES_5_3
designator R?, comment value 0R  PCB DECAL: R0402  (hidden comment: RES_5)
RES MF ZERO OHM 1/16W 5% 0402; AGILE_PN: 470-75394; MFG_NAME01: ROHM; MFG_PN01: MCR01MZPJ000; CAD_APPROVED: Yes; FPLIST: RC0402_25,RC0402_HD,RC0402_X2,0402_CC; Source_Path: F:\NXP\RT1020\SCH\IMXRT1021_0928_1.DSN; CLASS: DISCRETE; HEIGHT: 0.45 MM; Tolerance: 5%; ROHS: Yes
footprint R0402
pins: 1, 2

## RES_5_4
designator R?, comment value 1K  PCB DECAL: R0402  (hidden comment: RES_5)
RES MF ZERO OHM 1/16W 5% 0402; AGILE_PN: 470-75394; MFG_NAME01: ROHM; MFG_PN01: MCR01MZPJ000; CAD_APPROVED: Yes; FPLIST: RC0402_25,RC0402_HD,RC0402_X2,0402_CC; Source_Path: F:\NXP\RT1020\SCH\IMXRT1021_0928_1.DSN; CLASS: DISCRETE; HEIGHT: 0.45 MM; Tolerance: 5%; ROHS: Yes
footprint R0402
pins: 1, 2

## RES_5_5
designator R?, comment value 3.4K  PCB DECAL: R0402  (hidden comment: RES_5)
RES MF 4.7K 1/16W 5% 0402; FPLIST: RC0402_25,RC0402_HD,0402_CC; CAD_APPROVED: Yes; MFG_PN01: RK73B1ETTP472J; MFG_NAME01: KOA SPEER; AGILE_PN: 470-75626; Source_Path: F:\NXP\RT1020\SCH\IMXRT1021_0928_1.DSN; CLASS: DISCRETE; HEIGHT: 0.41mm; ROHS: Yes; Tolerance: 5%
footprint R0402
pins: 1, 2

## RES_5_6
designator R?, comment value 10K  PCB DECAL: R0402  (hidden comment: RES_5)
RES MF 10K 1/16W 5% 0402; AGILE_PN: 470-75557; MFG_NAME01: VISHAY INTERTECHNOLOGY; MFG_PN01: CRCW040210K0JNED; CAD_APPROVED: Yes; FPLIST: RC0402_25,RC0402_HD,0402_CC; Source_Path: F:\NXP\RT1020\SCH\IMXRT1021_0928_1.DSN; CLASS: DISCRETE; Tolerance: 5%; ROHS: Yes; HEIGHT: 0.4 MM
footprint R0402
pins: 1, 2

## RES_5_7
designator R?, comment value 10R  PCB DECAL: R0402  (hidden comment: RES_5)
RES MF 180K 1/10W 1% AEC-Q200 0402; AGILE_PN: 470-31088; MFG_NAME01: KOA SPEER; MFG_PN01: RK73H1ETTP1803F; CAD_APPROVED: Yes; FPLIST: RC0402_25,RC0402_HD,0402_CC; Temp_Range: -55C to +155C; Source_Path: F:\NXP\RT1020\SCH\IMXRT1021_0928_1.DSN; CLASS: DISCRETE; Tolerance: 1%; ROHS: Yes; HEIGHT: 0.40 MM
footprint R0402
pins: 1, 2

## RES_5_8
designator R?, comment value 1.5K  PCB DECAL: R0402  Tolerance: 1%  (hidden comment: RES_5)
RES MF 180K 1/10W 1% AEC-Q200 0402; AGILE_PN: 470-31088; MFG_NAME01: KOA SPEER; MFG_PN01: RK73H1ETTP1803F; CAD_APPROVED: Yes; FPLIST: RC0402_25,RC0402_HD,0402_CC; Temp_Range: -55C to +155C; Source_Path: F:\NXP\RT1020\SCH\IMXRT1021_0928_1.DSN; CLASS: DISCRETE; ROHS: Yes; HEIGHT: 0.40 MM
footprint R0402
pins: 1, 2

## RES_5_9
designator R?, comment value 240R  PCB DECAL: R0402  Tolerance: 1%  (hidden comment: RES_5)
RES MF 180K 1/10W 1% AEC-Q200 0402; AGILE_PN: 470-31088; MFG_NAME01: KOA SPEER; MFG_PN01: RK73H1ETTP1803F; CAD_APPROVED: Yes; FPLIST: RC0402_25,RC0402_HD,0402_CC; Temp_Range: -55C to +155C; Source_Path: F:\NXP\RT1020\SCH\IMXRT1021_0928_1.DSN; CLASS: DISCRETE; ROHS: Yes; HEIGHT: 0.40 MM
footprint R0402
pins: 1, 2

## RES_5_10
designator R?, comment value 470R  PCB DECAL: R0402  Tolerance: 1%  (hidden comment: RES_5)
RES MF 180K 1/10W 1% AEC-Q200 0402; AGILE_PN: 470-31088; MFG_NAME01: KOA SPEER; MFG_PN01: RK73H1ETTP1803F; CAD_APPROVED: Yes; FPLIST: RC0402_25,RC0402_HD,0402_CC; Temp_Range: -55C to +155C; Source_Path: F:\NXP\RT1020\SCH\IMXRT1021_0928_1.DSN; CLASS: DISCRETE; ROHS: Yes; HEIGHT: 0.40 MM
footprint R0402
pins: 1, 2

## RES_5_11
designator R?, comment value 0R  PCB DECAL: R0402  (hidden comment: RES_5)
RES MF 180K 1/10W 1% AEC-Q200 0402; AGILE_PN: 470-31088; MFG_NAME01: KOA SPEER; MFG_PN01: RK73H1ETTP1803F; CAD_APPROVED: Yes; FPLIST: RC0402_25,RC0402_HD,0402_CC; Temp_Range: -55C to +155C; Source_Path: F:\NXP\RT1020\SCH\IMXRT1021_0928_1.DSN; CLASS: DISCRETE; Tolerance: 1%; ROHS: Yes; HEIGHT: 0.40 MM
footprint R0402
pins: 1, 2

## RES_5_12
designator R?, comment value NC  PCB DECAL: R0402  (hidden comment: RES_5)
RES MF 180K 1/10W 1% AEC-Q200 0402; AGILE_PN: 470-31088; MFG_NAME01: KOA SPEER; MFG_PN01: RK73H1ETTP1803F; CAD_APPROVED: Yes; FPLIST: RC0402_25,RC0402_HD,0402_CC; Temp_Range: -55C to +155C; Source_Path: F:\NXP\RT1020\SCH\IMXRT1021_0928_1.DSN; CLASS: DISCRETE; Tolerance: 1%; ROHS: Yes; HEIGHT: 0.40 MM
footprint R0402
pins: 1, 2

## RES_5_13
designator R?, comment value NC/10K  PCB DECAL: R0402  (hidden comment: RES_5)
RES MF 10K 1/16W 5% 0402; AGILE_PN: 470-75557; MFG_NAME01: VISHAY INTERTECHNOLOGY; MFG_PN01: CRCW040210K0JNED; CAD_APPROVED: Yes; FPLIST: RC0402_25,RC0402_HD,0402_CC; Source_Path: F:\NXP\RT1020\SCH\IMXRT1021_0928_1.DSN; CLASS: DISCRETE; HEIGHT: 0.4 MM; TOL: 5%; Tolerance: 5%; ROHS: Yes
footprint R0402
pins: 1, 2

## RT8096CHGJ5
designator U?
PCB DECAL: TSOT-23-5; Source_Path: F:\SCH-PCB\EBF_L001\SCH\LIBRARY1.OLB; Value: RT8096CHGJ5
footprint TSOT-23-5
pins: 1 EN, 2 GND, 3 LX, 4 VIN, 5 FB

## RT9166-18GVL
designator U?
PCB DECAL: SOT23; Source_Path: F:\SCH-PCB\EBF_L003\SCH\SCH.OLB; Value: RT9166-18GVL
footprint SOT23
pins: 1 GND, 2 VOUT, 3 VIN

## SPACER_0
designator H?  value 2.0mm  (hidden comment: SPACER_0)
FASTENER, STANDOFF 4.5MMX3.53XM3.0X0.5 ROUND THR .635"L BRASS; AGILE_PN: 280-76498; MFG_NAME01: UNICORP; MFG_PN01: MSS251-R-1-A-16; ASSY_OPT: DNP; CAD_APPROVED: Yes; PCB DECAL: T2_5-4; Source_Path: H:\NXP_RT1050\SCH\IMXRT1052.DSN; CLASS: IC; ROHS: Yes; HEIGHT: 16.13MM
footprint T2_5-4
pins: 1 NC_1

## SY6280AAC
designator U?  value MT9700  (hidden comment: SY6280AAC)
PCB DECAL: SOT23-5; Source_Path: G:\开发板代码\郭老师资料\IMX6资料\原理图\SABRESDB_DESIGNFILES\DEVELOP\LIBRARY1.OLB
footprint SOT23-5
pins: 1 OUT, 2 GND, 3 ISET, 4 EN, 5 IN

## TESTLOOP
designator TP?  (value not drawn)
TEST POINT PAD 15MIL DIA SMT, NO PART TO ORDER; PCB DECAL: TPAD_015; CAD_APPROVED: Yes; MFG_PN01: NOTACOMPONENT; AGILE_PN: 211-76645; Source_Path: Q:\ORCADCIS\SYMBOLS\FCL_CONNECTOR.OLB; Value: TPAD_015; CLASS: IO; HEIGHT: 0.1MM; ROHS: Yes; MFG_NAME01: NOTACOMPONENT
footprint TPAD_015
pins: 1 PIN1